# Altium footprint library Research.PcbLib: 103 footprints (part 3 of 7)
Each footprint in its own frame and in the unit in brackets; x right, y up, seen from the top. Pads: shape width x height; smd on the part's side, far side on the other; paste and mask are expansions set on the pad; w line width, h text height; cw(c..) or ccw(c..) is an arc to the next point about the centre after c.
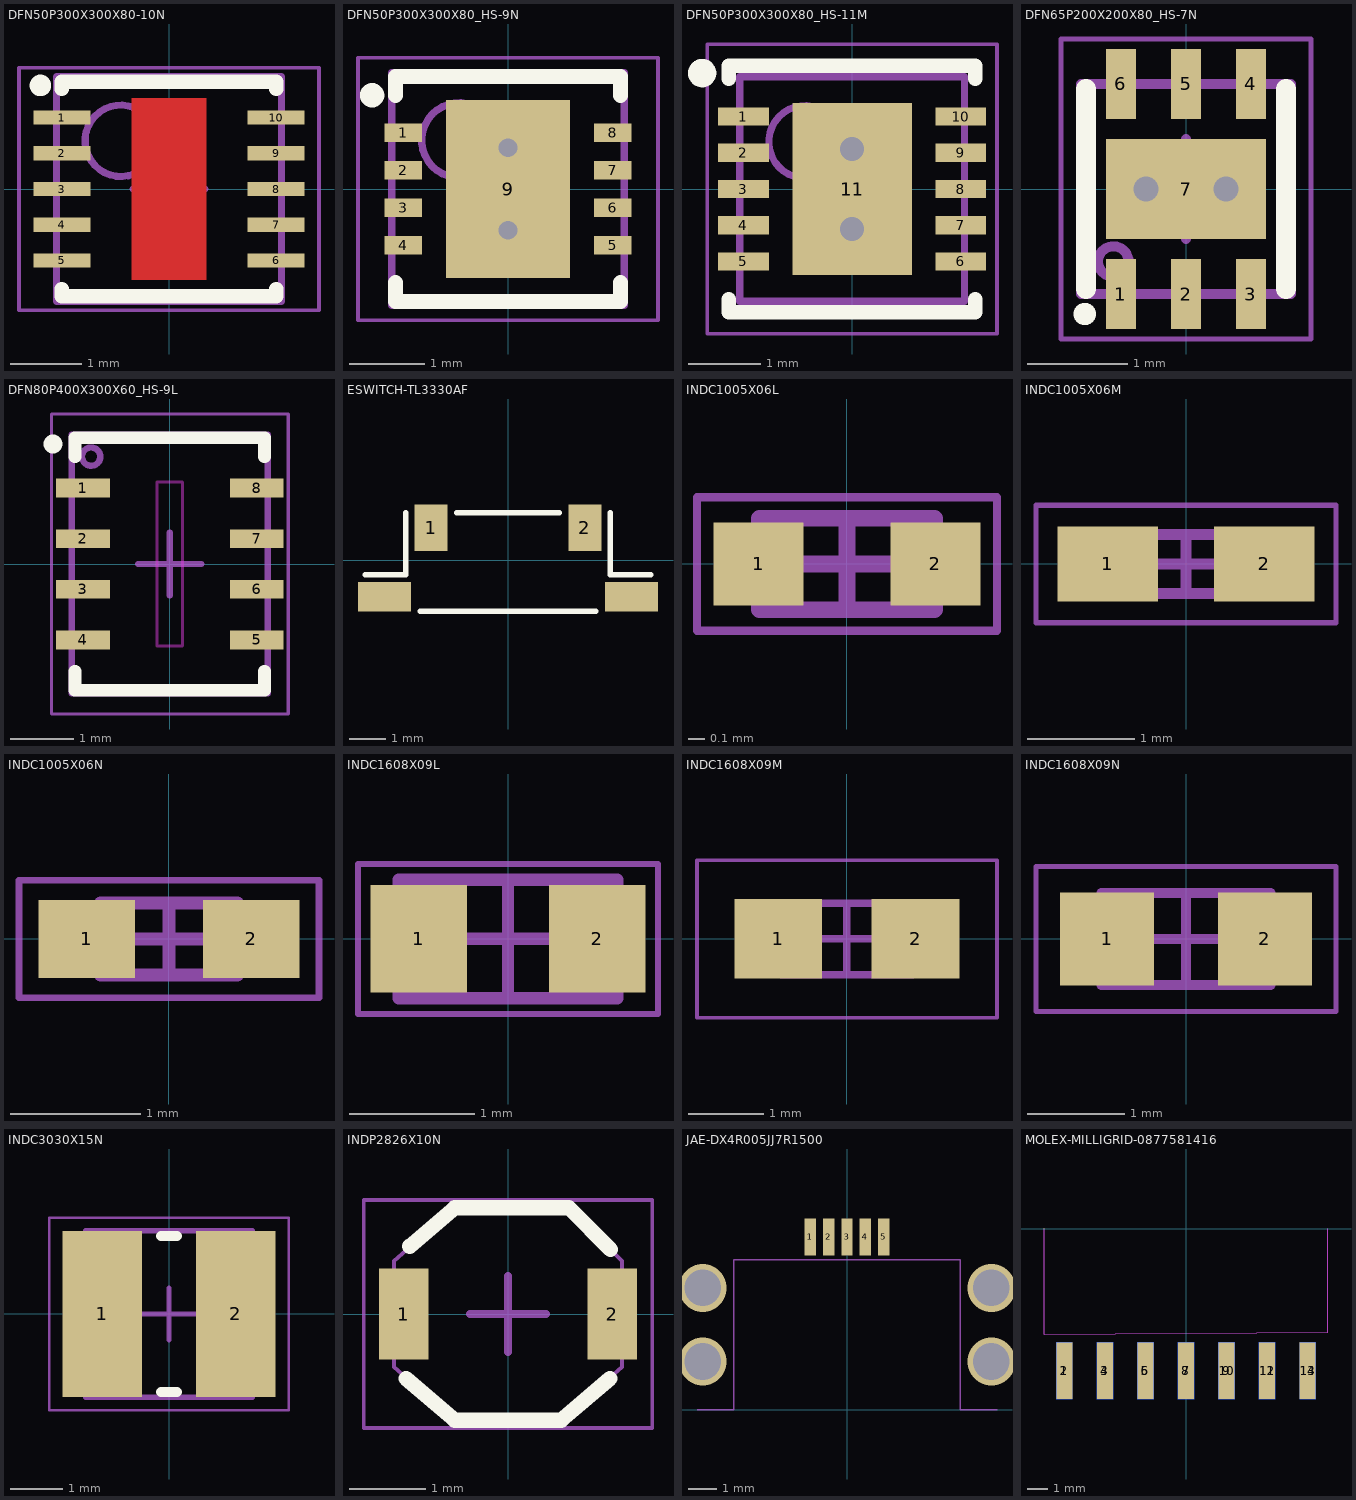
[diagram p2: the footprints below, top view; thin cyan lines are the x and y axes]

## DFN50P300X300X80-10N [mm] "DFN, 10-Leads, Body 3.00x3.00mm, Pitch 0.50mm, IPC Medium Density"
height 0.8
pads (10):
  rect 0.8x0.2 smd: 1(-1.5,1) 2(-1.5,0.5) 3(-1.5,0) 4(-1.5,-0.5) 5(-1.5,-1) 6(1.5,-1) 7(1.5,-0.5) 8(1.5,0) 9(1.5,0.5) 10(1.5,1)
Top Layer:
  rectangle: -0.525,-1.275 0.525,1.275
Top Overlay:
  circle w0.2: c-1.8,1.45 r0.05
  lines w0.2: -1.5,-1.4 -1.5,-1.5 1.5,-1.5 1.5,-1.4 ; -1.5,1.4 -1.5,1.5 1.5,1.5 1.5,1.4
Top Paste:
  rectangle: -0.425,-1.15 0.425,-0.15
  rectangle: -0.425,0.15 0.425,1.15
Mechanical 13:
  circle w0.1: c-0.675,0.675 r0.5
  lines w0.1: -1.575,-1.575 -1.575,1.575 1.575,1.575 1.575,-1.575 -1.575,-1.575
Mechanical 15:
  lines w0.05: -2.1,-1.7 -2.1,1.7 2.1,1.7 2.1,-1.7 -2.1,-1.7
  lines w0.1: -0.5,0 0.5,0 ; 0,-0.5 0,0.5
Mechanical 29:
  text ".Designator" at -1.4,-1.4 h0.8
3D body: height 0.8, standoff 0, extent -1.575,-1.575 1.575,1.575

## DFN50P300X300X80_HS-9N [mm] "DFN, 8-Leads, Body 3.00x3.00mm, Pitch 0.50mm, Thermal Pad 2.38x1.65mm, IPC Medium Density"
height 0.8
pads (9):
  rect 0.5x0.25 smd: 1(-1.4,0.75) 2(-1.4,0.25) 3(-1.4,-0.25) 4(-1.4,-0.75) 5(1.4,-0.75) 6(1.4,-0.25) 7(1.4,0.25) 8(1.4,0.75)
  rect 1.65x2.38 smd paste-10: 9(0,0)
via 0,0.55 diameter 0.45 hole 0.25
via 0,-0.55 diameter 0.45 hole 0.25
Top Overlay:
  circle w0.2: c-1.812,1.25 r0.062
  lines w0.2: -1.5,-1.25 -1.5,-1.5 1.5,-1.5 1.5,-1.25 ; -1.5,1.25 -1.5,1.5 1.5,1.5 1.5,1.25
Top Paste:
  rectangle: -0.7,0.1 0.7,1
  rectangle: -0.7,-1 0.7,-0.1
Top Solder:
  circle w0.2: c0,0.55 r0.35
  circle w0.2: c0,-0.55 r0.35
  region: 0.5,0.3 -0.45,0.3 -0.45,-0.3 0.5,-0.3
  region: 0.85,1.2 0.25,1.2 0.25,-1.2 0.85,-1.2
  region: -0.25,1.2 -0.85,1.2 -0.85,-1.2 -0.25,-1.2
  region: 0.85,-0.8 -0.85,-0.8 -0.85,-1.2 0.85,-1.2
  region: 0.85,1.2 -0.85,1.2 -0.85,0.8 0.85,0.8
Mechanical 13:
  circle w0.1: c-0.65,0.65 r0.5
  lines w0.1: -1.55,-1.55 -1.55,1.55 1.55,1.55 1.55,-1.55 -1.55,-1.55
Mechanical 15:
  lines w0.05: -2,-1.75 -2,1.75 2,1.75 2,-1.75 -2,-1.75
  lines w0.1: -0.5,0 0.5,0 ; 0,-0.5 0,0.5
Mechanical 29:
  text ".Designator" at -1.3,-1.3 h0.8
3D body: height 0.8, standoff 0, extent -1.55,-1.55 1.55,1.55

## DFN50P300X300X80_HS-11M [mm] "DFN, 10-Leads, Body 3.00x3.00mm, Pitch 0.50mm, Thermal Pad 2.38x1.65mm, IPC Low Density"
height 0.8
pads (11):
  rect 0.7x0.25 smd: 1(-1.5,1) 2(-1.5,0.5) 3(-1.5,0) 4(-1.5,-0.5) 5(-1.5,-1) 6(1.5,-1) 7(1.5,-0.5) 8(1.5,0) 9(1.5,0.5) 10(1.5,1)
  rect 1.65x2.38 smd: 11(0,0)
via 0,0.55 diameter 0.686 hole 0.33
via 0,-0.55 diameter 0.686 hole 0.33
Top Overlay:
  circle w0.25: c-2.071,1.6 r0.071
  lines w0.2: -1.7,-1.525 -1.7,-1.7 0.4,-1.7 ; -1.7,1.525 -1.7,1.7 0.3,1.7 ; 0.275,-1.7 1.7,-1.7 1.7,-1.525 ; 0.275,1.7 1.7,1.7 1.7,1.525
Mechanical 13:
  circle w0.1: c-0.65,0.65 r0.5
  lines w0.1: -1.55,-1.55 -1.55,1.55 1.55,1.55 1.55,-1.55 -1.55,-1.55
Mechanical 15:
  lines w0.05: -2,-2 -2,2 2,2 2,-2 -2,-2
  lines w0.1: -0.5,0 0.5,0 ; 0,-0.5 0,0.5
Mechanical 29:
  text ".Designator" at -1.4,-1.4 h0.8
3D body: height 0.8, standoff 0.05, extent -1.55,-1.55 1.55,1.55

## DFN65P200X200X80_HS-7N [mm] "DFN, 6-Leads, Body 2.00x2.00mm, Pitch 0.65mm, Thermal Pad 1.00x1.60mm, IPC Medium Density"
height 0.8
pads (7):
  rect 0.3x0.7 smd: 1(-0.65,-1.05) 2(0,-1.05) 3(0.65,-1.05) 4(0.65,1.05) 5(0,1.05) 6(-0.65,1.05)
  rect 1.6x1 smd: 7(0,0)
via 0.4,0 diameter 0.45 hole 0.25
via -0.4,0 diameter 0.45 hole 0.25
Top Overlay:
  circle w0.2: c-1.012,-1.25 r0.012
  lines w0.2: -1,-1 -1,1 ; 1,-1 1,1
Mechanical 13:
  circle w0.1: c-0.727,-0.725 r0.152
  lines w0.1: -1.05,-1.05 1.05,-1.05 1.05,1.05 -1.05,1.05 -1.05,-1.05
Mechanical 15:
  lines w0.05: -1.25,-1.5 1.25,-1.5 1.25,1.5 -1.25,1.5 -1.25,-1.5
  lines w0.1: -0.5,0 0.5,0 ; 0,-0.5 0,0.5
Mechanical 29:
  text ".Designator" at -0.9,0.5 h0.4
3D body: height 0.8, standoff 0.08, extent -1.05,-1.05 1.05,1.05

## DFN80P400X300X60_HS-9L [mm] "DFN, 8-Leads, Body 4.00x3.00mm, Pitch 0.80mm, Thermal Pad 2.40x0.30mm, IPC High Density"
height 0.6
pads (8):
  rect 0.85x0.3 smd: 1(-1.375,1.2) 2(-1.375,0.4) 3(-1.375,-0.4) 4(-1.375,-1.2) 5(1.375,-1.2) 6(1.375,-0.4) 7(1.375,0.4) 8(1.375,1.2)
Top Overlay:
  circle w0.2: c-1.85,1.9 r0.05
  lines w0.2: -1.5,-1.7 -1.5,-2 1.5,-2 1.5,-1.7 ; -1.5,1.7 -1.5,2 1.5,2 1.5,1.7
Keep-Out Layer:
  lines w0.05: -0.2,-1.3 0.2,-1.3 0.2,1.3 -0.2,1.3 -0.2,-1.3
Mechanical 13:
  circle w0.1: c-1.245,1.7 r0.145
  lines w0.1: -1.55,-2.05 1.55,-2.05 1.55,2.05 -1.55,2.05 -1.55,-2.05
Mechanical 15:
  lines w0.05: -1.875,-2.375 1.875,-2.375 1.875,2.375 -1.875,2.375 -1.875,-2.375
  lines w0.1: -0.5,0 0.5,0 ; 0,-0.5 0,0.5
Mechanical 29:
  text ".Designator" at -1.3,-1.8 h0.8
3D body: height 0.6, standoff 0, extent -1.55,-2.05 1.55,2.05

## ESWITCH-TL3330AF [mm] "E-Switch TL3330AF Series Tactile Switch"
pads (4):
  rect 0.9x1.27 smd: 1(-2.1,0.885) 2(2.1,0.885)
  rect 1.45x0.8 smd: ""(-3.375,-1) ""(3.375,-1)
Top Overlay:
  lines w0.15: -3.9,-0.4 -2.8,-0.4 -2.8,1.3 ; -2.4,-1.4 2.4,-1.4 ; -1.4,1.3 1.4,1.3 ; 2.8,1.3 2.8,-0.4 3.9,-0.4
3D body: height 3.5, standoff 0, extent -3.9,-2.311 3.9,1.311

## INDC1005X06L [mm] "Chip Inductor, 2-Leads, Body 1.00x0.50mm, IPC High Density"
height 0.55
pads (2):
  rect 0.54x0.5 smd: 1(-0.53,0) 2(0.53,0)
Mechanical 13:
  lines w0.1: -0.525,-0.275 -0.525,0.275 0.525,0.275 0.525,-0.275 -0.525,-0.275
Mechanical 15:
  lines w0.05: -0.9,-0.4 -0.9,0.4 0.9,0.4 0.9,-0.4 -0.9,-0.4
  lines w0.1: -0.275,0 0.275,0 ; 0,-0.275 0,0.275
Mechanical 29:
  text ".Designator" at -0.4,-0.1 h0.2
3D body: height 0.55, standoff 0, extent -0.275,-0.275 0.275,0.275
3D body: height 0.55, standoff 0, extent -0.525,-0.275 -0.275,0.275
3D body: height 0.55, standoff 0, extent 0.275,-0.275 0.525,0.275

## INDC1005X06M [mm] "Chip Inductor, 2-Leads, Body 1.00x0.50mm, IPC Low Density"
height 0.55
pads (2):
  rect 0.94x0.7 smd: 1(-0.73,0) 2(0.73,0)
Mechanical 13:
  lines w0.1: -0.525,-0.275 -0.525,0.275 0.525,0.275 0.525,-0.275 -0.525,-0.275
Mechanical 15:
  lines w0.05: -1.4,-0.55 -1.4,0.55 1.4,0.55 1.4,-0.55 -1.4,-0.55
  lines w0.1: -0.275,0 0.275,0 ; 0,-0.275 0,0.275
Mechanical 29:
  text ".Designator" at -0.4,-0.1 h0.2
3D body: height 0.55, standoff 0, extent -0.275,-0.275 0.275,0.275
3D body: height 0.55, standoff 0, extent -0.525,-0.275 -0.275,0.275
3D body: height 0.55, standoff 0, extent 0.275,-0.275 0.525,0.275

## INDC1005X06N [mm] "Chip Inductor, 2-Leads, Body 1.00x0.50mm, IPC Medium Density"
height 0.55
pads (2):
  rect 0.74x0.6 smd: 1(-0.63,0) 2(0.63,0)
Mechanical 13:
  lines w0.1: -0.525,-0.275 -0.525,0.275 0.525,0.275 0.525,-0.275 -0.525,-0.275
Mechanical 15:
  lines w0.05: -1.15,-0.45 -1.15,0.45 1.15,0.45 1.15,-0.45 -1.15,-0.45
  lines w0.1: -0.275,0 0.275,0 ; 0,-0.275 0,0.275
Mechanical 29:
  text ".Designator" at -0.4,-0.1 h0.2
3D body: height 0.55, standoff 0, extent -0.275,-0.275 0.275,0.275
3D body: height 0.55, standoff 0, extent -0.525,-0.275 -0.275,0.275
3D body: height 0.55, standoff 0, extent 0.275,-0.275 0.525,0.275

## INDC1608X09L [mm] "Chip Inductor, 2-Leads, Body 1.60x0.80mm, IPC High Density"
height 0.95
pads (2):
  rect 0.77x0.86 smd: 1(-0.715,0) 2(0.715,0)
Mechanical 13:
  lines w0.1: -0.875,-0.475 0.875,-0.475 0.875,0.475 -0.875,0.475 -0.875,-0.475
Mechanical 15:
  lines w0.05: -1.2,-0.6 1.2,-0.6 1.2,0.6 -1.2,0.6 -1.2,-0.6
  lines w0.1: -0.475,0 0.475,0 ; 0,-0.475 0,0.475
Mechanical 29:
  text ".Designator" at -0.7,0 h0.3
  text ".Comment" at -0.7,-0.3 h0.2
3D body: height 0.95, standoff 0, extent 0.475,-0.475 0.875,0.475
3D body: height 0.95, standoff 0, extent -0.875,-0.475 -0.475,0.475
3D body: height 0.95, standoff 0, extent -0.475,-0.475 0.475,0.475

## INDC1608X09M [mm] "Chip Inductor, 2-Leads, Body 1.60x0.80mm, IPC Low Density"
height 0.95
pads (2):
  rect 1.17x1.06 smd: 1(-0.915,0) 2(0.915,0)
Mechanical 13:
  lines w0.1: -0.875,-0.475 0.875,-0.475 0.875,0.475 -0.875,0.475 -0.875,-0.475
Mechanical 15:
  lines w0.05: -2,-1.05 2,-1.05 2,1.05 -2,1.05 -2,-1.05
  lines w0.1: -0.475,0 0.475,0 ; 0,-0.475 0,0.475
Mechanical 29:
  text ".Designator" at -0.7,0 h0.3
  text ".Comment" at -0.7,-0.3 h0.2
3D body: height 0.95, standoff 0, extent 0.475,-0.475 0.875,0.475
3D body: height 0.95, standoff 0, extent -0.875,-0.475 -0.475,0.475
3D body: height 0.95, standoff 0, extent -0.475,-0.475 0.475,0.475

## INDC1608X09N [mm] "Chip Inductor, 2-Leads, Body 1.60x0.80mm, IPC Medium Density"
height 0.95
pads (2):
  rect 0.97x0.96 smd: 1(-0.815,0) 2(0.815,0)
Mechanical 13:
  lines w0.1: -0.875,-0.475 -0.875,0.475 0.875,0.475 0.875,-0.475 -0.875,-0.475
Mechanical 15:
  lines w0.05: -1.55,-0.75 -1.55,0.75 1.55,0.75 1.55,-0.75 -1.55,-0.75
  lines w0.1: -0.475,0 0.475,0 ; 0,-0.475 0,0.475
Mechanical 29:
  text ".Designator" at -0.7,0 h0.3
  text ".Comment" at -0.7,-0.3 h0.2
3D body: height 0.95, standoff 0, extent -0.475,-0.475 0.475,0.475
3D body: height 0.95, standoff 0, extent -0.875,-0.475 -0.475,0.475
3D body: height 0.95, standoff 0, extent 0.475,-0.475 0.875,0.475

## INDC3030X15N [mm] "Chip Inductor, 2-Leads, Body 3.00x3.00mm, IPC Medium Density"
height 1.5
pads (2):
  rect 1.53x3.2 smd: 1(-1.285,0) 2(1.285,0)
Top Overlay:
  lines w0.2: -0.15,-1.5 0.15,-1.5 ; -0.15,1.5 0.15,1.5
Mechanical 13:
  lines w0.1: -1.6,-1.6 -1.6,1.6 1.6,1.6 1.6,-1.6 -1.6,-1.6
Mechanical 15:
  lines w0.05: -2.3,-1.85 -2.3,1.85 2.3,1.85 2.3,-1.85 -2.3,-1.85
  lines w0.1: -0.5,0 0.5,0 ; 0,-0.5 0,0.5
Mechanical 29:
  text ".Designator" at -1.4,-1.4 h1
3D body: height 1.5, standoff 0, extent -0.7,-1.6 0.7,1.6
3D body: height 1.5, standoff 0, extent -1.6,-1.6 -0.7,1.6
3D body: height 1.5, standoff 0, extent 0.7,-1.6 1.6,1.6

## INDP2826X10N [mm] "Precision Wire Wound Inductor, 2-Leads, Body 2.80x2.60mm, IPC Medium Density"
height 1
pads (2):
  rect 0.65x1.2 smd: 1(-1.375,0) 2(1.375,0)
Top Overlay:
  lines w0.2: -1.342,-0.849 -0.7,-1.4 0.7,-1.4 1.342,-0.849 ; -1.293,0.892 -0.7,1.4 0.8,1.4 1.35,0.85
Mechanical 13:
  lines w0.05: -1.5,-0.7 -1.5,0.7 -0.7,1.4 0.8,1.4 1.5,0.7 1.5,-0.7 0.7,-1.4 -0.7,-1.4 -1.5,-0.7
Mechanical 15:
  lines w0.05: -1.9,-1.5 1.9,-1.5 1.9,1.5 -1.9,1.5 -1.9,-1.5
  lines w0.1: -0.5,0 0.5,0 ; 0,-0.5 0,0.5
Mechanical 29:
  text ".Designator" at -1.3,-0.4 h0.8
3D body: height 0.7, standoff 0, extent 0.8,-0.6 1.525,1.1
3D body: height 0.7, standoff 0, extent -1.525,-1.1 -0.8,0.6
3D body: height 0.8, standoff 0, extent -1.19,-1.198 1.2,1.198
3D body: height 1, standoff 0, extent -1.091,-1.098 1.1,1.098
3D body: height 0.9, standoff 0, extent -1.5,-1.4 1.5,1.4

## JAE-DX4R005JJ7R1500 [mm] "JAE Inline Micro USB Connector"
height 1
pads (5):
  rect 0.4x1.3 smd: 1(-1.3,6.1) 2(-0.65,6.1) 3(0,6.1) 4(0.65,6.1) 5(1.3,6.1)
via -5.1,1.7 diameter 1.7 hole 1.3
via -5.1,4.3 diameter 1.7 hole 1.3
via 5.1,4.3 diameter 1.7 hole 1.3
via 5.1,1.7 diameter 1.7 hole 1.3
Mechanical 1:
  lines w0.05: -5.3,0 -4,0 -4,5.3 4,5.3 4,0 5.3,0
Mechanical 29:
  text ".Designator" at -5.1,-0.4 h0.8
3D body: height 1.2, standoff -1.63, extent -5.25,-0.5 5.25,6.25

## MOLEX-MILLIGRID-0877581416 [mm] "Molex Milli-Grid, 14 Pin, 2 Row Male Header, 2 mm Pitch"
height 3
pads (14):
  rect 0.8x2.8 smd: 1(-6,-7) 3(-4,-7) 5(-2,-7) 7(0,-7) 9(2,-7) 11(4,-7) 13(6,-7)
  rect 0.8x2.8 smd far side: 2(-6,-7) 4(-4,-7) 6(-2,-7) 8(0,-7) 10(2,-7) 12(4,-7) 14(6,-7)
Keep-Out Layer:
  lines w0.001: -7,0 -7,-5.2 7,-5.1 7,0
Mechanical 1:
  lines w0.05: -7,0 -7,-5.2 7,-5.1 7,0
Mechanical 29:
  text ".Designator" at -6.9,-5.1 h0.4
3D body: height 1.2, standoff -2.8, extent -6.95,-8.1 6.95,0